# EAGLE library part LAUNCHPAD_XL (library mapesynth_2pag)
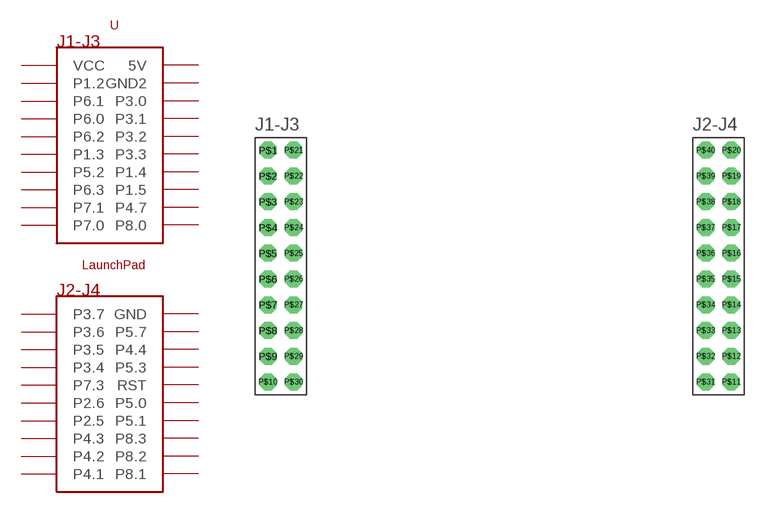
[diagram p0: symbol with the pads of LAUNCHPAD_XL; footprint LAUNCHPAD_XL]

Designator prefix -

## LAUNCHPAD_XL  [LAUNCHPAD_XL]
P$1  VCC
P$2  P1.2
P$3  P6.1
P$4  P6.0
P$5  P6.2
P$6  P1.3
P$7  P5.2
P$8  P6.3
P$9  P7.1
P$10  P7.0
P$11  P8.1
P$12  P8.2
P$13  P8.3
P$14  P5.1
P$15  P5.0
P$16  RST
P$17  P5.3
P$18  P4.4
P$19  P5.7
P$20  GND
P$21  5V
P$22  GND2
P$23  P3.0
P$24  P3.1
P$25  P3.2
P$26  P3.3
P$27  P1.4
P$28  P1.5
P$29  P4.7
P$30  P8.0
P$31  P4.1
P$32  P4.2
P$33  P4.3
P$34  P2.5
P$35  P2.6
P$36  P7.3
P$37  P3.4
P$38  P3.5
P$39  P3.6
P$40  P3.7

## Footprint LAUNCHPAD_XL (pad centres in mm)
drill 0.7 pad 1.676 octagon: P$1 -5.08,5.08; P$2 -5.08,2.54; P$3 -5.08,0; P$4 -5.08,-2.54; P$5 -5.08,-5.08; P$6 -5.08,-7.62; P$7 -5.08,-10.16; P$8 -5.08,-12.7; P$9 -5.08,-15.24; P$10 -5.08,-17.78; P$11 40.64,-17.78; P$12 40.64,-15.24; P$13 40.64,-12.7; P$14 40.64,-10.16; P$15 40.64,-7.62; P$16 40.64,-5.08; P$17 40.64,-2.54; P$18 40.64,0; P$19 40.64,2.54; P$20 40.64,5.08; P$21 -2.54,5.08; P$22 -2.54,2.54; P$23 -2.54,0; P$24 -2.54,-2.54; P$25 -2.54,-5.08; P$26 -2.54,-7.62; P$27 -2.54,-10.16; P$28 -2.54,-12.7; P$29 -2.54,-15.24; P$30 -2.54,-17.78; P$31 38.1,-17.78; P$32 38.1,-15.24; P$33 38.1,-12.7; P$34 38.1,-10.16; P$35 38.1,-7.62; P$36 38.1,-5.08; P$37 38.1,-2.54; P$38 38.1,0; P$39 38.1,2.54; P$40 38.1,5.08